# EAGLE library part CP2615 (library Silicon Labs)
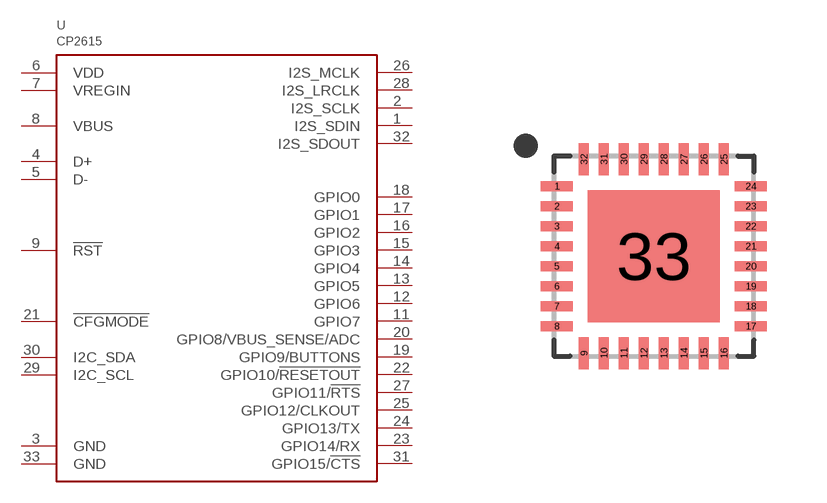
[diagram p6: symbol with the pads of QFN32; footprint QFN32]

Designator prefix U

## CP2615  [QFN32]
1  I2S_SDIN
2  I2S_SCLK
3  GND
4  D+
5  D-
6  VDD
7  VREGIN
8  VBUS
9  !RST
11  GPIO7
12  GPIO6
13  GPIO5
14  GPIO4
15  GPIO3
16  GPIO2
17  GPIO1
18  GPIO0
19  GPIO9/BUTTONS
20  GPIO8/VBUS_SENSE/ADC
21  !CFGMODE
22  GPIO10/!RESETOUT!
23  GPIO14/RX
24  GPIO13/TX
25  GPIO12/CLKOUT
26  I2S_MCLK
27  GPIO11/!RTS!
28  I2S_LRCLK
29  I2C_SCL
30  I2C_SDA
31  GPIO15/!CTS!
32  I2S_SDOUT
33  GND

## Footprint QFN32 (pad centres in mm)
smd 0.8 x 0.25: 1 -2.425,1.75; 2 -2.425,1.25; 3 -2.425,0.75; 4 -2.425,0.25; 5 -2.425,-0.25; 6 -2.425,-0.75; 7 -2.425,-1.25; 8 -2.425,-1.75; 17 2.425,-1.75; 18 2.425,-1.25; 19 2.425,-0.75; 20 2.425,-0.25; 21 2.425,0.25; 22 2.425,0.75; 23 2.425,1.25; 24 2.425,1.75
smd 0.25 x 0.8: 9 -1.75,-2.425; 10 -1.25,-2.425; 11 -0.75,-2.425; 12 -0.25,-2.425; 13 0.25,-2.425; 14 0.75,-2.425; 15 1.25,-2.425; 16 1.75,-2.425; 25 1.75,2.425; 26 1.25,2.425; 27 0.75,2.425; 28 0.25,2.425; 29 -0.25,2.425; 30 -0.75,2.425; 31 -1.25,2.425; 32 -1.75,2.425
smd 3.3 x 3.3: 33 0,0